# Altium footprint library ELKO_d16_h21.5_p7_5.PcbLib: 1 footprints
Each footprint in its own frame and in the unit in brackets; x right, y up, seen from the top. Pads: shape width x height; smd on the part's side, far side on the other; paste and mask are expansions set on the pad; w line width, h text height; cw(c..) or ccw(c..) is an arc to the next point about the centre after c.
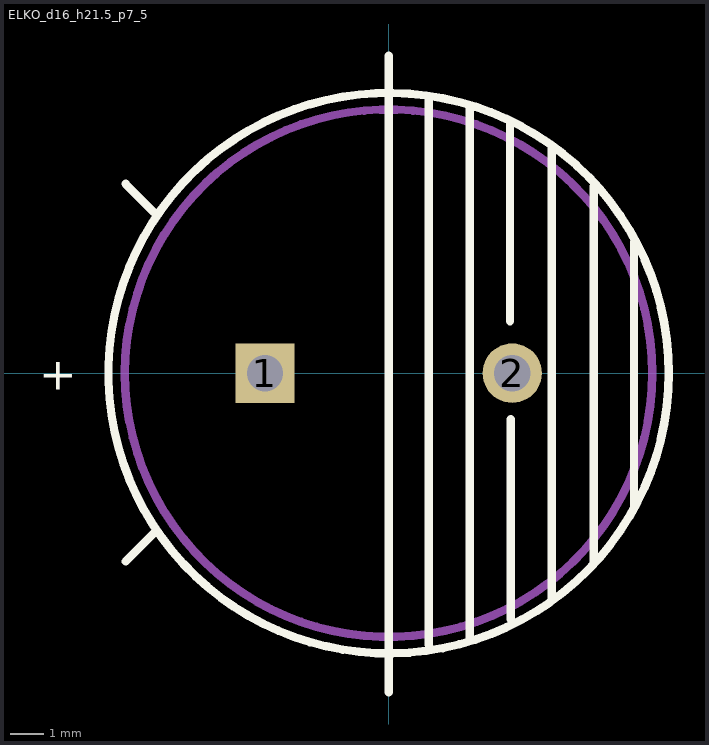
[diagram p0: the footprint, top view; thin cyan lines are the x and y axes]

## ELKO_d16_h21.5_p7_5 [mm]
height 21.5
pads (2):
  rect 1.8x1.8 hole 1.1: 1(-3.75,0)
  round 1.8 hole 1.1: 2(3.75,0)
Top Overlay:
  circle w0.254: c0,0 r8.5
  lines w0.254: -7.976,-5.715 -7.112,-4.851 ; -7.976,5.74 -7.112,4.877 ; 0,-9.677 0,-8.509 ; 0,-8.484 0,8.458 0,9.627 ; 1.219,-8.23 1.219,8.28 ; 2.464,-8.026 2.464,8.052 ; 3.683,1.575 3.683,7.62 ; 3.708,-7.468 3.708,-1.397 ; 4.953,-6.858 4.953,6.833 ; 6.223,-5.69 6.223,5.664 ; 7.442,-4.039 7.442,3.988
  text "+" at -10.6,-0.5 h1
Mechanical 1:
  circle w0.254: c0,0 r8
3D body "User Library-CAPAER_D160_L215_P075_W008X030.STEP": height 21.51, standoff -3, extent -8,-8 8.01,8